# Altium footprint library PcbLib3.PcbLib: 17 footprints (part 1 of 2)
Each footprint in its own frame and in the unit in brackets; x right, y up, seen from the top. Pads: shape width x height; smd on the part's side, far side on the other; paste and mask are expansions set on the pad; w line width, h text height; cw(c..) or ccw(c..) is an arc to the next point about the centre after c.
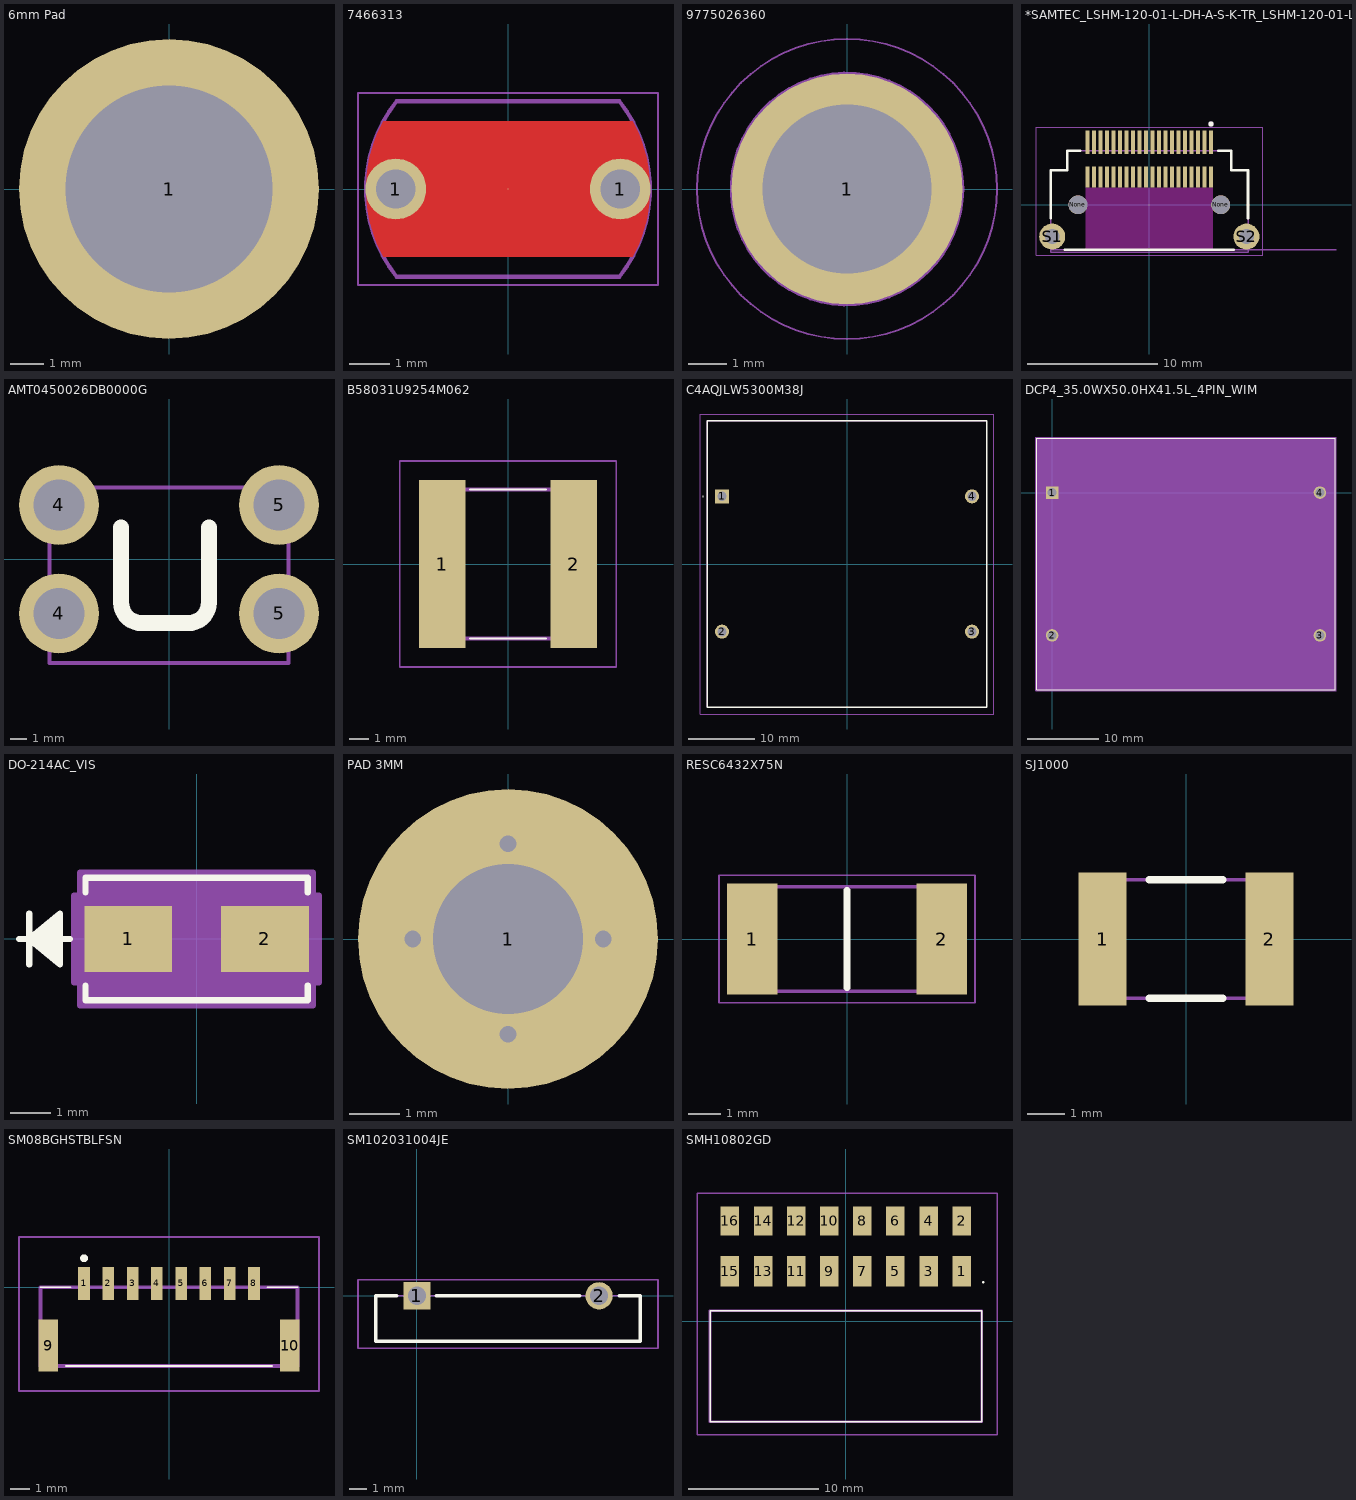
[diagram p0: the footprints below, top view; thin cyan lines are the x and y axes]

## 6mm Pad [mm]
pads (1):
  round 9 hole 6.2 paste+0 mask+0.2: 1(0,0)

## 7466313 [mm] "SMD Terminal Right Angled with Pins, Thread M3, Length 5.5mm"
height 7
pads (3):
  round 1.5 hole 0.97 paste-2539.97: 1(-2.77,0) 1(2.77,0)
  round 0.025 smd: 1(0,0)
Top Layer:
  region: -3.079,-1.665 3.079,-1.665 3.13,-1.569 3.221,-1.373 3.3,-1.17 3.366,-0.964 3.42,-0.753 3.46,-0.54 3.487,-0.325 3.5,-0.108 3.5,0.108 3.487,0.325 3.46,0.54 3.42,0.753 3.366,0.964 3.3,1.17 3.221,1.373 3.13,1.569 3.079,1.665 -3.079,1.665 -3.13,1.57 -3.221,1.373 -3.3,1.171 -3.366,0.964 -3.42,0.754 -3.46,0.54 -3.487,0.325 -3.5,0.109 -3.5,-0.108 -3.487,-0.325 -3.46,-0.54 -3.42,-0.754 -3.367,-0.964 -3.301,-1.171 -3.222,-1.373 -3.131,-1.57
Top Paste:
  region: -3.354,1 -2,1 -2,0.5 2,0.5 2,1 3.354,1 3.328,1.086 3.268,1.256 3.199,1.423 3.122,1.586 3.079,1.665 -3.079,1.665 -3.122,1.585 -3.199,1.423 -3.268,1.256 -3.328,1.086
  region: 3.354,-1 2,-1 2,-0.5 -2,-0.5 -2,-1 -3.354,-1 -3.328,-1.086 -3.268,-1.256 -3.199,-1.423 -3.122,-1.586 -3.079,-1.665 3.079,-1.665 3.122,-1.585 3.199,-1.423 3.268,-1.256 3.328,-1.086
Top 3D Body:
  lines w0.1: -2.75,-2.165 cw(c0,0) -2.75,2.165 2.75,2.165 cw(c0,0) 2.75,-2.165 -2.75,-2.165
Top Courtyard:
  lines w0.05: -0.5,0 0.5,0 ; 0,-0.5 0,0.5 ; -3.7,-2.365 -3.7,2.365 3.7,2.365 3.7,-2.365 -3.7,-2.365
Top Designator:
  text ".Designator" at -7.498,-0.5 h1.5
Top Component Outline:
  lines w0.1: -2.75,-2.165 cw(c0,0) -2.75,2.165 2.75,2.165 cw(c0,0) 2.75,-2.165 -2.75,-2.165
3D body "7466313.stp": height 7, standoff -1, extent -3.5,-2.165 3.5,2.165

## 9775026360 [mm] "SMD Steel Spacer M3 Thread Internal, Pin Length 2.6mm"
height 1
pads (1):
  round 6 / inner round 0 / far side round 0 hole 4.4 unplated paste-2539.97: 1(0,0)
Top Paste:
  region: 0.4,3.613 0.4,2.204 0.401,2.204 0.566,2.167 0.887,2.057 1.187,1.9 1.46,1.699 1.699,1.459 1.9,1.186 2.057,0.886 2.167,0.566 2.204,0.4 3.613,0.4 3.59,0.603 3.5,1.003 3.365,1.389 3.188,1.759 2.97,2.105 2.715,2.426 2.426,2.715 2.105,2.97 1.759,3.188 1.389,3.365 1.003,3.5 0.603,3.59
  region: 3.613,-0.4 2.204,-0.4 2.204,-0.401 2.167,-0.566 2.057,-0.887 1.9,-1.187 1.699,-1.46 1.459,-1.699 1.186,-1.9 0.886,-2.057 0.566,-2.167 0.4,-2.204 0.4,-3.613 0.603,-3.59 1.003,-3.5 1.389,-3.365 1.759,-3.188 2.105,-2.97 2.426,-2.715 2.715,-2.426 2.97,-2.105 3.188,-1.759 3.365,-1.389 3.5,-1.003 3.59,-0.603
  region: -0.4,-3.613 -0.4,-2.204 -0.401,-2.204 -0.566,-2.167 -0.887,-2.057 -1.187,-1.9 -1.46,-1.699 -1.699,-1.459 -1.9,-1.186 -2.057,-0.886 -2.167,-0.566 -2.204,-0.4 -3.613,-0.4 -3.59,-0.603 -3.5,-1.003 -3.365,-1.389 -3.188,-1.759 -2.97,-2.105 -2.715,-2.426 -2.426,-2.715 -2.105,-2.97 -1.759,-3.188 -1.389,-3.365 -1.003,-3.5 -0.603,-3.59
  region: -3.613,0.4 -2.204,0.4 -2.204,0.401 -2.167,0.566 -2.057,0.887 -1.9,1.187 -1.699,1.46 -1.459,1.699 -1.186,1.9 -0.886,2.057 -0.566,2.167 -0.4,2.204 -0.4,3.613 -0.603,3.59 -1.003,3.5 -1.389,3.365 -1.759,3.188 -2.105,2.97 -2.426,2.715 -2.715,2.426 -2.97,2.105 -3.188,1.759 -3.365,1.389 -3.5,1.003 -3.59,0.603
Top 3D Body:
  circle w0.1: c0,0 r3
Top Courtyard:
  circle w0.05: c0,0 r3.9
  lines w0.05: -0.5,0 0.5,0 ; 0,-0.5 0,0.5
Top Designator:
  text ".Designator" at -7.498,-0.5 h1.5
Top Component Outline:
  circle w0.1: c0,0 r3
3D body "9775026360.stp": height 1, standoff -2.6, extent -3,-3 3,3

## *SAMTEC_LSHM-120-01-L-DH-A-S-K-TR_LSHM-120-01-L-DH-A-S-K-TR(Primary) [mm]
pads (44):
  rect 0.3x1.8 smd: 01(4.75,4.81) 03(4.25,4.81) 05(3.75,4.81) 07(3.25,4.81) 09(2.75,4.81) 11(2.25,4.81) 13(1.75,4.81) 15(1.25,4.81) 17(0.75,4.81) 19(0.25,4.81) 21(-0.25,4.81) 23(-0.75,4.81) 25(-1.25,4.81) 27(-1.75,4.81) 29(-2.25,4.81) 31(-2.75,4.81) 33(-3.25,4.81) 35(-3.75,4.81) 37(-4.25,4.81) 39(-4.75,4.81)
  rect 0.3x1.63 smd: 02(4.75,2.135) 04(4.25,2.135) 06(3.75,2.135) 08(3.25,2.135) 10(2.75,2.135) 12(2.25,2.135) 14(1.75,2.135) 16(1.25,2.135) 18(0.75,2.135) 20(0.25,2.135) 22(-0.25,2.135) 24(-0.75,2.135) 26(-1.25,2.135) 28(-1.75,2.135) 30(-2.25,2.135) 32(-2.75,2.135) 34(-3.25,2.135) 36(-3.75,2.135) 38(-4.25,2.135) 40(-4.75,2.135)
  round 1.45 hole 1.45 unplated: None(-5.5,0) None(5.5,0)
  round 2 hole 1.15: S1(-7.475,-2.45) S2(7.475,-2.45)
Top Overlay:
  circle w0.2: c4.75,6.23 r0.1
  lines w0.2: -7.6,-1.03 -7.6,2.65 -6.315,2.65 -6.315,4.15 -5.32,4.15 ; -6.5,-3.47 6.5,-3.47 ; 5.32,4.15 6.315,4.15 6.315,2.65 7.6,2.65 7.6,-1.03
Top Paste:
  circle w1: c7.475,-2.45 r0.5
  circle w1: c-7.475,-2.45 r0.5
Keep-Out Layer:
  region: -4.9,1.32 4.9,1.32 4.9,-3.47 -4.9,-3.47
  region: -4.9,1.32 4.9,1.32 4.9,-3.47 -4.9,-3.47
  region: -4.9,1.32 4.9,1.32 4.9,-3.47 -4.9,-3.47
  region: -4.9,1.32 4.9,1.32 4.9,-3.47 -4.9,-3.47
  region: -4.9,1.32 4.9,1.32 4.9,-3.47 -4.9,-3.47
  region: -4.9,1.32 4.9,1.32 4.9,-3.47 -4.9,-3.47
Mechanical 4:
  circle w0.2: c4.75,6.23 r0.1
  circle w0.2: c4.75,6.23 r0.1
  lines w0.1: -7.6,-3.65 7.6,-3.65 ; -7.6,-3.65 -7.6,-3.47 ; -7.6,-3.65 7.6,-3.65 ; -7.6,-3.65 -7.6,-3.47 ; -7.6,-3.47 -7.6,2.65 ; -7.6,-3.47 14.375,-3.47 -7.6,-3.47 ; -7.6,-3.47 -7.6,2.65 ; -7.6,2.65 -6.315,2.65 ; -7.6,2.65 -6.315,2.65 ; -6.315,2.65 -6.315,4.15 ; -6.315,2.65 -6.315,4.15 ; -6.315,4.15 6.315,4.15 ; -6.315,4.15 6.315,4.15 ; 6.315,2.65 7.6,2.65 ; 6.315,2.65 6.315,4.15 ; 6.315,2.65 7.6,2.65 ; 6.315,2.65 6.315,4.15 ; 7.6,-3.65 7.6,2.65 ; 7.6,-3.65 7.6,2.65
  text "PCB EDGE" at 8.875,-3.595 h1.88
  text "PCB EDGE" at 8.875,-3.595 h1.88
Mechanical 16:
  lines w0.05: -8.725,-3.9 8.725,-3.9 8.725,5.96 -8.725,5.96 -8.725,-3.9
3D body "LSHM-120-01-L-DH-A-S-K-TR.stp": height 5.26, standoff -1.8, extent -7.901,-3.395 7.901,5.604

## AMT0450026DB0000G [mm]
height 1
pads (4):
  round 5 hole 3.2: 4(-6.9,-3.4) 4(-6.9,3.4) 5(6.9,-3.4) 5(6.9,3.4)
Top Overlay:
  lines w1: -3,2 -3,-2.73 ccw(c-1.73,-2.73) -1.73,-4 1.23,-4 ccw(c1.23,-2.73) 2.5,-2.73 2.5,2
Top Courtyard:
  lines w0.254: -7.5,-6.5 7.5,-6.5 7.5,4.5 -7.5,4.5 -7.5,-6.5
3D body "AMT0450026DB0000G.stp": height 14, standoff -3.5, extent -7.5,-6.5 7.5,4.5

## B58031U9254M062 [mm]
pads (2):
  rect 2.45x8.85 smd mask+0.1: 1(-3.475,0) 2(3.475,0)
Top Overlay:
  lines w0.1: -2,-3.925 2,-3.925 ; -2,3.925 2,3.925
Mechanical 13:
  lines w0.2: -3.57,-3.925 -3.57,3.925 3.57,3.925 3.57,-3.925 -3.57,-3.925
Mechanical 15:
  lines w0.1: -5.7,-5.425 -5.7,5.425 5.7,5.425 5.7,-5.425 -5.7,-5.425
3D body "B58031U9254M062.stp": height 4, standoff 0, extent -3.57,-3.925 3.57,3.925

## C4AQJLW5300M38J [mm]
pads (4):
  rect 2.1x2.1 hole 1.4: 1(-18.75,10.15)
  round 2.1 hole 1.4: 2(-18.75,-10.15) 3(18.75,-10.15) 4(18.75,10.15)
Top Overlay:
  lines w0.1: -21.65,10.15 ccw(c-21.6,10.15) -21.55,10.15 ccw(c-21.6,10.15) -21.65,10.15
  lines w0.2: -21,-21.5 21,-21.5 21,21.5 -21,21.5 -21,-21.5
Mechanical 13:
  lines w0.1: -21,-21.5 21,-21.5 21,21.5 -21,21.5 -21,-21.5
Mechanical 15:
  lines w0.1: -22,-22.5 22,-22.5 22,22.5 -22,22.5 -22,-22.5
3D body "C4AQJLW5300M38J.stp": height 26.36, standoff -4.84, extent -21.3,-21.705 21.3,21.7

## DCP4_35.0WX50.0HX41.5L_4PIN_WIM [mil]
pads (4):
  rect 69x69 / inner round 60 / far side rect 69x69 hole 49 paste-99999 mask+0: 1(0,0)
  round 69 / inner round 60 / far side round 69 hole 49 paste-99999 mask+0: 2(0,-787.4) 3(1476.38,-787.4) 4(1476.38,0)
Top Overlay:
  lines w6: -83.81,-1087.7 -83.81,300.3 1560.19,300.3 1560.19,-1087.7 -83.81,-1087.7
Mechanical 13:
  lines w1: -78.81,-1082.7 -78.81,295.3 1555.19,295.3 1555.19,-1082.7 -78.81,-1082.7
Mechanical 15:
  region: 1565.19,-1092.7 -88.81,-1092.7 -88.81,305.3 1565.19,305.3
  lines w6: -88.81,-1092.7 1565.19,-1092.7 1565.19,305.3 -88.81,305.3 -88.81,-1092.7
3D body: height 1968.5, standoff 0, extent -75,-1075 1550,275

## DO-214AC_VIS [mil]
pads (2):
  rect 86x65 smd paste+0 mask+0: 1(-67,0) 2(67,0)
Top Overlay:
  lines w6: -174,0 -124,0 ; -164,-25 -164,25 ; -134,-20 -164,0 ; -134,-15 -164,0 ; -134,-10 -164,0 ; -134,-5 -164,0 ; -134,5 -164,0 ; -134,10 -164,0 ; -134,15 -164,0 ; -134,20 -164,0 ; -109,-45.6 -109,-60 109,-60 109,-45.6 ; -109,45.6 -109,60 109,60 109,45.6 ; -164,0 -134,-25 -134,25 -164,0
Mechanical 13:
  lines w1: -174,0 -124,0 ; -164,-25 -164,25 ; -134,-20 -164,0 ; -134,-15 -164,0 ; -134,-10 -164,0 ; -134,-5 -164,0 ; -134,5 -164,0 ; -134,10 -164,0 ; -134,15 -164,0 ; -134,20 -164,0 ; -164,0 -134,-25 -134,25 -164,0 ; -104,-55 -104,55 104,55 104,-55 -104,-55
Mechanical 15:
  region: -114,-42.5 -120,-42.5 -120,42.5 -114,42.5 -114,65 114,65 114,42.5 120,42.5 120,-42.5 114,-42.5 114,-65 -114,-65
  lines w6: -120,-42.5 -114,-42.5 -114,-65 114,-65 114,-42.5 120,-42.5 120,42.5 114,42.5 114,65 -114,65 -114,42.5 -120,42.5 -120,-42.5
3D body "DO-214AC_VIS.step": height 92.01, standoff 0, extent -104.02,-55 104.02,55

## PAD 3MM [mm]
pads (1):
  round 6 hole 3 paste+0 mask+0: 1(0,0)
via -1.905,0 diameter 0.635 hole 0.33
via 1.905,0 diameter 0.635 hole 0.33
via 0,1.905 diameter 0.635 hole 0.33
via 0,-1.905 diameter 0.635 hole 0.33

## PCBComponent_1 [mm]

## RESC6432X75N [mm]
pads (2):
  rect 1.55x3.4 smd: 1(-2.9,0) 2(2.9,0)
Top Overlay:
  lines w0.2: 0,-1.5 0,1.5
Mechanical 13:
  lines w0.1: -3.2,-1.6 3.2,-1.6 3.2,1.6 -3.2,1.6 -3.2,-1.6
Mechanical 15:
  lines w0.05: -3.925,-1.95 3.925,-1.95 3.925,1.95 -3.925,1.95 -3.925,-1.95
3D body "CHV2512-JW-105ELF.stp": height 0.75, standoff 0, extent -3.2,-1.6 3.2,1.6

## SJ1000 [mm]
pads (2):
  rect 1.3x3.6 smd: 1(-2.25,0) 2(2.25,0)
Top Overlay:
  lines w0.2: -1,-1.6 1,-1.6 ; -1,1.6 1,1.6
Mechanical 13:
  lines w0.1: -2.25,-1.6 2.25,-1.6 2.25,1.6 -2.25,1.6 -2.25,-1.6
3D body "SJ800.stp": height 3.2, standoff 0, extent -2.25,-1.6 2.25,1.6

## SM08BGHSTBLFSN [mm]
pads (10):
  rect 0.6x1.7 smd: 1(-4.375,0.2) 2(-3.125,0.2) 3(-1.875,0.2) 4(-0.625,0.2) 5(0.625,0.2) 6(1.875,0.2) 7(3.125,0.2) 8(4.375,0.2)
  rect 1x2.7 smd: 9(-6.225,-3) 10(6.225,-3)
Top Overlay:
  lines w0.1: -6.625,0 -5.064,0 ; -5.3,-4.05 5.3,-4.05 ; 5.064,0 6.625,0
  lines w0.2: -4.475,1.496 cw(c-4.375,1.496) -4.275,1.496 cw(c-4.375,1.496) -4.475,1.496
Mechanical 13:
  lines w0.2: -6.625,-4.05 6.625,-4.05 6.625,0 -6.625,0 -6.625,-4.05
Mechanical 15:
  lines w0.1: -7.725,-5.35 7.725,-5.35 7.725,2.596 -7.725,2.596 -7.725,-5.35
3D body "SM08B-GHS-TB_LF__SN_.stp": height 4.15, standoff 0, extent -6.625,-4.25 6.625,0.99

## SM102031004JE [mm]
pads (2):
  rect 1.519x1.519 hole 1.013: 1(0,0)
  round 1.519 hole 1.013: 2(10.16,0)
Top Overlay:
  lines w0.2: -1.12,0 -2.285,0 -2.285,-2.54 12.445,-2.54 12.445,0 11.28,0 ; 1.08,0 9.08,0
Mechanical 13:
  lines w0.1: -2.285,-2.54 -2.285,0 12.445,0 12.445,-2.54 -2.285,-2.54
Mechanical 15:
  lines w0.1: -3.285,-2.921 -3.285,0.889 13.445,0.889 13.445,-2.921 -3.285,-2.921
3D body "SM102031004JE.stp": height 9.32, standoff -2.37, extent -2.286,-2.16 12.446,0.381

## SMH10802GD [mm]
pads (16):
  rect 1.42x2.34 smd: 1(8.89,3.835) 3(6.35,3.835) 5(3.81,3.835) 7(1.27,3.835) 9(-1.27,3.835) 11(-3.81,3.835) 13(-6.35,3.835) 15(-8.89,3.835)
  rect 1.42x2.24 smd: 2(8.89,7.695) 4(6.35,7.695) 6(3.81,7.695) 8(1.27,7.695) 10(-1.27,7.695) 12(-3.81,7.695) 14(-6.35,7.695) 16(-8.89,7.695)
Top Overlay:
  lines w0.1: -10.415,-7.695 -10.415,0.815 10.415,0.815 10.415,-7.695 -10.415,-7.695 ; 10.5,3 cw(c10.55,3) 10.6,3 cw(c10.55,3) 10.5,3
Mechanical 13:
  lines w0.2: -10.415,-7.695 -10.415,0.815 10.415,0.815 10.415,-7.695 -10.415,-7.695
Mechanical 15:
  lines w0.1: -11.415,-8.695 -11.415,9.815 11.6,9.815 11.6,-8.695 -11.415,-8.695
3D body "SMH-108-02-G-D.stp": height 4.96, standoff 0, extent -10.324,-7.309 10.504,8.439